# Altium integrated library National Semiconductor OtherParts.IntLib: 205 symbols (part 5 of 7)
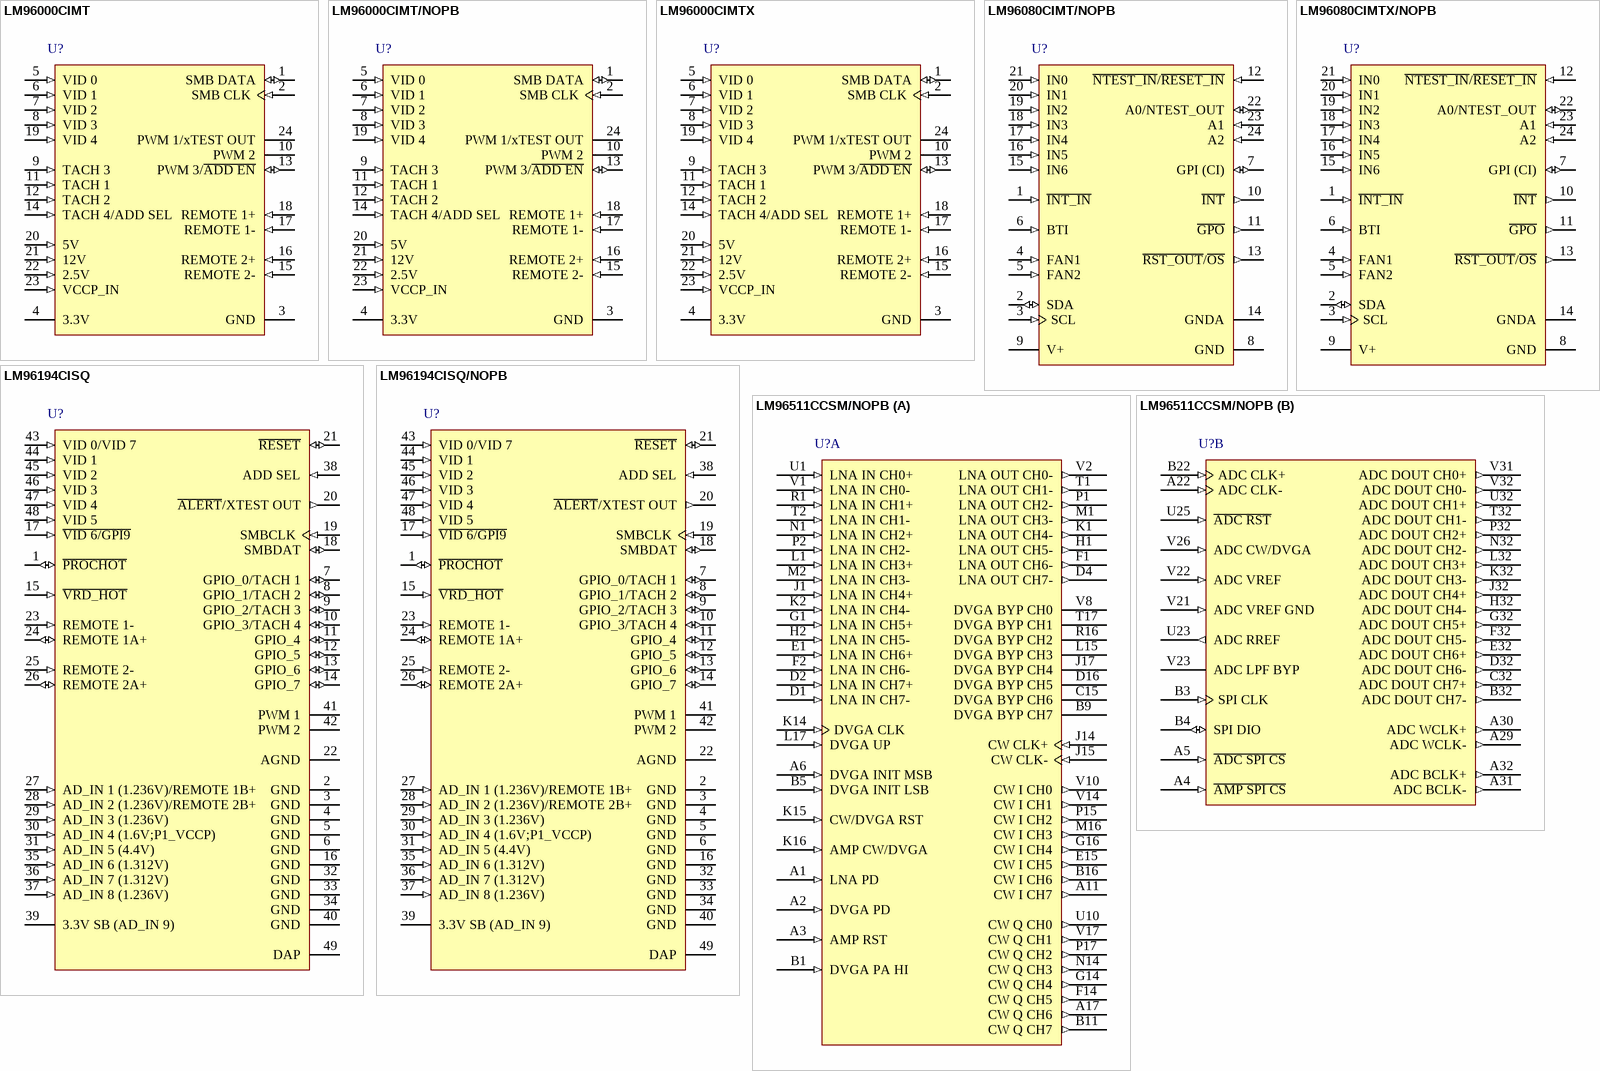
[diagram p16: symbols LM96000CIMT to LM96511CCSM/NOPB]

## LM96000CIMT
designator U?
Hardware Monitor with Integrated Fan Control, 24-pin TSSOP; PartNumber: LM96000CIMT; Manufacturer: National Semiconductor; PackageTopMarking: NSUZXYTTE#*LM96000*CIMT; PowerWise: Y; CompType: OtherParts; DatasheetVersion: Jul-2008; PackageVersion: revE, Mar-2003; PackageReference: MTC24; PackageDescription: Molded TSSOP, Jedec, 7.8 x 4.4 x 0.9mm Body, 24 Lead, 0.65mm Pitch; RoHS: N; PinCount: 24; High-Reliability: Y; Code_JEDEC: MO-153-AD; ComponentLink1Description: Manufacturer URL; ComponentLink1URL: http://www.national.com/; ComponentLink2Description: LM96000 Datasheet; ComponentLink2URL: http://www.national.com/ds/LM/LM96000.pdf; ComponentLink3Description: LM96000 Web Page; ComponentLink3URL: http://www.national.com/pf/LM/LM96000.html; ComponentLink4Description: MTC24 Package Page; ComponentLink4URL: http://www.national.com/packaging/folders/mtc24.html
footprint MTC24_N (TSOP, 24-Leads, Body 7.8x4.4mm, Pitch 0.65mm, IPC Medium Density)
footprint MTC24_L (TSOP, 24-Leads, Body 7.8x4.4mm, Pitch 0.65mm, IPC High Density)
footprint MTC24_M (TSOP, 24-Leads, Body 7.8x4.4mm, Pitch 0.65mm, IPC Low Density)
pins: 1 SMB DATA (io), 2 SMB CLK (in), 3 GND (power), 4 3.3V (power), 5 VID 0 (in), 6 VID 1 (in), 7 VID 2 (in), 8 VID 3 (in), 9 TACH 3 (in), 10 PWM 2 (oe), 11 TACH 1 (in), 12 TACH 2 (in), 13 PWM 3/~{ADD EN} (io), 14 TACH 4/ADD SEL (in), 15 REMOTE 2- (in), 16 REMOTE 2+ (in), 17 REMOTE 1- (in), 18 REMOTE 1+ (in), 19 VID 4 (in), 20 5V (in), 21 12V (in), 22 2.5V (in), 23 VCCP_IN (in), 24 PWM 1/xTEST OUT (oe)

## LM96000CIMT/NOPB
designator U?
Hardware Monitor with Integrated Fan Control, 24-pin TSSOP, Pb-Free; PartNumber: LM96000CIMT/NOPB; Manufacturer: National Semiconductor; PackageTopMarking: NSUZXYTTE#*LM96000*CIMT; PowerWise: Y; CompType: OtherParts; DatasheetVersion: Jul-2008; PackageVersion: revE, Mar-2003; PackageReference: MTC24; PackageDescription: Molded TSSOP, Jedec, 7.8 x 4.4 x 0.9mm Body, 24 Lead, 0.65mm Pitch; RoHS: Y; PinCount: 24; High-Reliability: Y; Code_JEDEC: MO-153-AD; ComponentLink1Description: Manufacturer URL; ComponentLink1URL: http://www.national.com/; ComponentLink2Description: LM96000 Datasheet; ComponentLink2URL: http://www.national.com/ds/LM/LM96000.pdf; ComponentLink3Description: LM96000 Web Page; ComponentLink3URL: http://www.national.com/pf/LM/LM96000.html; ComponentLink4Description: MTC24 Package Page; ComponentLink4URL: http://www.national.com/packaging/folders/mtc24.html
footprint MTC24_N (TSOP, 24-Leads, Body 7.8x4.4mm, Pitch 0.65mm, IPC Medium Density)
footprint MTC24_L (TSOP, 24-Leads, Body 7.8x4.4mm, Pitch 0.65mm, IPC High Density)
footprint MTC24_M (TSOP, 24-Leads, Body 7.8x4.4mm, Pitch 0.65mm, IPC Low Density)
pins: 1 SMB DATA (io), 2 SMB CLK (in), 3 GND (power), 4 3.3V (power), 5 VID 0 (in), 6 VID 1 (in), 7 VID 2 (in), 8 VID 3 (in), 9 TACH 3 (in), 10 PWM 2 (oe), 11 TACH 1 (in), 12 TACH 2 (in), 13 PWM 3/~{ADD EN} (io), 14 TACH 4/ADD SEL (in), 15 REMOTE 2- (in), 16 REMOTE 2+ (in), 17 REMOTE 1- (in), 18 REMOTE 1+ (in), 19 VID 4 (in), 20 5V (in), 21 12V (in), 22 2.5V (in), 23 VCCP_IN (in), 24 PWM 1/xTEST OUT (oe)

## LM96000CIMTX
designator U?
Hardware Monitor with Integrated Fan Control, 24-pin TSSOP; PartNumber: LM96000CIMTX; Manufacturer: National Semiconductor; PackageTopMarking: NSUZXYTTE#*LM96000*CIMT; PowerWise: Y; CompType: OtherParts; DatasheetVersion: Jul-2008; PackageVersion: revE, Mar-2003; PackageReference: MTC24; PackageDescription: Molded TSSOP, Jedec, 7.8 x 4.4 x 0.9mm Body, 24 Lead, 0.65mm Pitch; RoHS: N; PinCount: 24; High-Reliability: Y; Code_JEDEC: MO-153-AD; ComponentLink1Description: Manufacturer URL; ComponentLink1URL: http://www.national.com/; ComponentLink2Description: LM96000 Datasheet; ComponentLink2URL: http://www.national.com/ds/LM/LM96000.pdf; ComponentLink3Description: LM96000 Web Page; ComponentLink3URL: http://www.national.com/pf/LM/LM96000.html; ComponentLink4Description: MTC24 Package Page; ComponentLink4URL: http://www.national.com/packaging/folders/mtc24.html
footprint MTC24_N (TSOP, 24-Leads, Body 7.8x4.4mm, Pitch 0.65mm, IPC Medium Density)
footprint MTC24_L (TSOP, 24-Leads, Body 7.8x4.4mm, Pitch 0.65mm, IPC High Density)
footprint MTC24_M (TSOP, 24-Leads, Body 7.8x4.4mm, Pitch 0.65mm, IPC Low Density)
pins: 1 SMB DATA (io), 2 SMB CLK (in), 3 GND (power), 4 3.3V (power), 5 VID 0 (in), 6 VID 1 (in), 7 VID 2 (in), 8 VID 3 (in), 9 TACH 3 (in), 10 PWM 2 (oe), 11 TACH 1 (in), 12 TACH 2 (in), 13 PWM 3/~{ADD EN} (io), 14 TACH 4/ADD SEL (in), 15 REMOTE 2- (in), 16 REMOTE 2+ (in), 17 REMOTE 1- (in), 18 REMOTE 1+ (in), 19 VID 4 (in), 20 5V (in), 21 12V (in), 22 2.5V (in), 23 VCCP_IN (in), 24 PWM 1/xTEST OUT (oe)

## LM96080CIMT/NOPB
designator U?
System Hardware Monitor with 2-Wire Serial Interface, 24-pin TSSOP, Pb-Free; PartNumber: LM96080CIMT/NOPB; Manufacturer: National Semiconductor; PackageTopMarking: NSUZXYTTE#*LM96080*CIMT; PowerWise: Y; CompType: OtherParts; DatasheetVersion: Nov-2009; PackageVersion: revE, Mar-2003; PackageReference: MTC24; PackageDescription: Molded TSSOP, Jedec, 7.8 x 4.4 x 0.9mm Body, 24 Lead, 0.65mm Pitch; RoHS: Y; PinCount: 24; High-Reliability: Y; Code_JEDEC: MO-153-AD; ComponentLink1Description: Manufacturer URL; ComponentLink1URL: http://www.national.com/; ComponentLink2Description: LM96080 Datasheet; ComponentLink2URL: http://www.national.com/ds/LM/LM96080.pdf; ComponentLink3Description: LM96080 Web Page; ComponentLink3URL: http://www.national.com/pf/LM/LM96080.html; ComponentLink4Description: MTC24 Package Page; ComponentLink4URL: http://www.national.com/packaging/folders/mtc24.html
footprint MTC24_N (TSOP, 24-Leads, Body 7.8x4.4mm, Pitch 0.65mm, IPC Medium Density)
footprint MTC24_L (TSOP, 24-Leads, Body 7.8x4.4mm, Pitch 0.65mm, IPC High Density)
footprint MTC24_M (TSOP, 24-Leads, Body 7.8x4.4mm, Pitch 0.65mm, IPC Low Density)
pins: 1 ~{INT_IN} (in), 2 SDA (io), 3 SCL (in), 4 FAN1 (in), 5 FAN2 (in), 6 BTI (in), 7 GPI (CI) (io), 8 GND (power), 9 V+ (power), 10 ~{INT} (out), 11 ~{GPO} (out), 12 ~{NTEST_IN}/~{RESET_IN} (in), 13 ~{RST_OUT}/~{OS} (out), 14 GNDA (power), 15 IN6 (in), 16 IN5 (in), 17 IN4 (in), 18 IN3 (in), 19 IN2 (in), 20 IN1 (in), 21 IN0 (in), 22 A0/NTEST_OUT (io), 23 A1 (in), 24 A2 (in)

## LM96080CIMTX/NOPB
designator U?
System Hardware Monitor with 2-Wire Serial Interface, 24-pin TSSOP, Pb-Free; PartNumber: LM96080CIMTX/NOPB; Manufacturer: National Semiconductor; PackageTopMarking: NSUZXYTTE#*LM96080*CIMT; PowerWise: Y; CompType: OtherParts; DatasheetVersion: Nov-2009; PackageVersion: revE, Mar-2003; PackageReference: MTC24; PackageDescription: Molded TSSOP, Jedec, 7.8 x 4.4 x 0.9mm Body, 24 Lead, 0.65mm Pitch; RoHS: Y; PinCount: 24; High-Reliability: Y; Code_JEDEC: MO-153-AD; ComponentLink1Description: Manufacturer URL; ComponentLink1URL: http://www.national.com/; ComponentLink2Description: LM96080 Datasheet; ComponentLink2URL: http://www.national.com/ds/LM/LM96080.pdf; ComponentLink3Description: LM96080 Web Page; ComponentLink3URL: http://www.national.com/pf/LM/LM96080.html; ComponentLink4Description: MTC24 Package Page; ComponentLink4URL: http://www.national.com/packaging/folders/mtc24.html
footprint MTC24_N (TSOP, 24-Leads, Body 7.8x4.4mm, Pitch 0.65mm, IPC Medium Density)
footprint MTC24_L (TSOP, 24-Leads, Body 7.8x4.4mm, Pitch 0.65mm, IPC High Density)
footprint MTC24_M (TSOP, 24-Leads, Body 7.8x4.4mm, Pitch 0.65mm, IPC Low Density)
pins: 1 ~{INT_IN} (in), 2 SDA (io), 3 SCL (in), 4 FAN1 (in), 5 FAN2 (in), 6 BTI (in), 7 GPI (CI) (io), 8 GND (power), 9 V+ (power), 10 ~{INT} (out), 11 ~{GPO} (out), 12 ~{NTEST_IN}/~{RESET_IN} (in), 13 ~{RST_OUT}/~{OS} (out), 14 GNDA (power), 15 IN6 (in), 16 IN5 (in), 17 IN4 (in), 18 IN3 (in), 19 IN2 (in), 20 IN1 (in), 21 IN0 (in), 22 A0/NTEST_OUT (io), 23 A1 (in), 24 A2 (in)

## LM96194CISQ
designator U?
TruTherm Hardware Monitor with PI Fan Control for Workstation Management, 48-pin LLP; PartNumber: LM96194CISQ; Manufacturer: National Semiconductor; PackageTopMarking: THHD*XTT; PowerWise: Y; CompType: OtherParts; DatasheetVersion: Mar-2004; PackageVersion: revB, May-2009; PackageReference: SQA48A; PackageDescription: LLP, Plastic, Quad, 7 x 7 x 0.8mm Body, 48 Lead, 0.5mm Pitch, No Pullback; RoHS: Y; PinCount: 48; High-Reliability: Y; Code_JEDEC: MO-220-WKKD-2; ComponentLink1Description: Manufacturer URL; ComponentLink1URL: http://www.national.com/; ComponentLink2Description: LM96194 Datasheet; ComponentLink2URL: http://www.national.com/ds/LM/LM96194.pdf; ComponentLink3Description: LM96194 Web Page; ComponentLink3URL: http://www.national.com/pf/LM/LM96194.html; ComponentLink4Description: SQA48A Package Page; ComponentLink4URL: http://www.national.com/packaging/folders/sqa48a.html
footprint SQA48A (QFN, 48-Leads, Body 7x7mm, Pitch 0.5mm, Thermal Pad 5.2x5.2mm, NSC Recommended)
pins: 1 ~{PROCHOT} (io), 2 GND (power), 3 GND (power), 4 GND (power), 5 GND (power), 6 GND (power), 7 GPIO_0/TACH 1 (io), 8 GPIO_1/TACH 2 (io), 9 GPIO_2/TACH 3 (io), 10 GPIO_3/TACH 4 (io), 11 GPIO_4 (io), 12 GPIO_5 (io), 13 GPIO_6 (io), 14 GPIO_7 (io), 15 ~{VRD_HOT} (in), 16 GND (power), 17 ~{VID 6/GPI9} (in), 18 SMBDAT (io), 19 SMBCLK (in), 20 ~{ALERT}/XTEST OUT (out), 21 ~{RESET} (io), 22 AGND (power), 23 REMOTE 1- (in), 24 REMOTE 1A+ (io), 25 REMOTE 2- (in), 26 REMOTE 2A+ (io), 27 AD_IN 1 (1.236V)/REMOTE 1B+ (in), 28 AD_IN 2 (1.236V)/REMOTE 2B+ (in), 29 AD_IN 3 (1.236V) (in), 30 AD_IN 4 (1.6V;P1_VCCP) (in), 31 AD_IN 5 (4.4V) (in), 32 GND (power), 33 GND (power), 34 GND (power), 35 AD_IN 6 (1.312V) (in), 36 AD_IN 7 (1.312V) (in), 37 AD_IN 8 (1.236V) (in), 38 ADD SEL (in), 39 3.3V SB (AD_IN 9) (power), 40 GND (power), 41 PWM 1 (oe), 42 PWM 2 (oe), 43 VID 0/VID 7 (in), 44 VID 1 (in), 45 VID 2 (in), 46 VID 3 (in), 47 VID 4 (in), 48 VID 5 (in), 49 DAP (power)

## LM96194CISQ/NOPB
designator U?
TruTherm Hardware Monitor with PI Fan Control for Workstation Management, 48-pin LLP, Pb-Free; PartNumber: LM96194CISQ/NOPB; Manufacturer: National Semiconductor; PackageTopMarking: NS*UZXYTTE#*LM96194; PowerWise: Y; CompType: OtherParts; DatasheetVersion: Mar-2004; PackageVersion: revB, May-2009; PackageReference: SQA48A; PackageDescription: LLP, Plastic, Quad, 7 x 7 x 0.8mm Body, 48 Lead, 0.5mm Pitch, No Pullback; RoHS: Y; PinCount: 48; High-Reliability: Y; Code_JEDEC: MO-220-WKKD-2; ComponentLink1Description: Manufacturer URL; ComponentLink1URL: http://www.national.com/; ComponentLink2Description: LM96194 Datasheet; ComponentLink2URL: http://www.national.com/ds/LM/LM96194.pdf; ComponentLink3Description: LM96194 Web Page; ComponentLink3URL: http://www.national.com/pf/LM/LM96194.html; ComponentLink4Description: SQA48A Package Page; ComponentLink4URL: http://www.national.com/packaging/folders/sqa48a.html
footprint SQA48A (QFN, 48-Leads, Body 7x7mm, Pitch 0.5mm, Thermal Pad 5.2x5.2mm, NSC Recommended)
pins: 1 ~{PROCHOT} (io), 2 GND (power), 3 GND (power), 4 GND (power), 5 GND (power), 6 GND (power), 7 GPIO_0/TACH 1 (io), 8 GPIO_1/TACH 2 (io), 9 GPIO_2/TACH 3 (io), 10 GPIO_3/TACH 4 (io), 11 GPIO_4 (io), 12 GPIO_5 (io), 13 GPIO_6 (io), 14 GPIO_7 (io), 15 ~{VRD_HOT} (in), 16 GND (power), 17 ~{VID 6/GPI9} (in), 18 SMBDAT (io), 19 SMBCLK (in), 20 ~{ALERT}/XTEST OUT (out), 21 ~{RESET} (io), 22 AGND (power), 23 REMOTE 1- (in), 24 REMOTE 1A+ (io), 25 REMOTE 2- (in), 26 REMOTE 2A+ (io), 27 AD_IN 1 (1.236V)/REMOTE 1B+ (in), 28 AD_IN 2 (1.236V)/REMOTE 2B+ (in), 29 AD_IN 3 (1.236V) (in), 30 AD_IN 4 (1.6V;P1_VCCP) (in), 31 AD_IN 5 (4.4V) (in), 32 GND (power), 33 GND (power), 34 GND (power), 35 AD_IN 6 (1.312V) (in), 36 AD_IN 7 (1.312V) (in), 37 AD_IN 8 (1.236V) (in), 38 ADD SEL (in), 39 3.3V SB (AD_IN 9) (power), 40 GND (power), 41 PWM 1 (oe), 42 PWM 2 (oe), 43 VID 0/VID 7 (in), 44 VID 1 (in), 45 VID 2 (in), 46 VID 3 (in), 47 VID 4 (in), 48 VID 5 (in), 49 DAP (power)

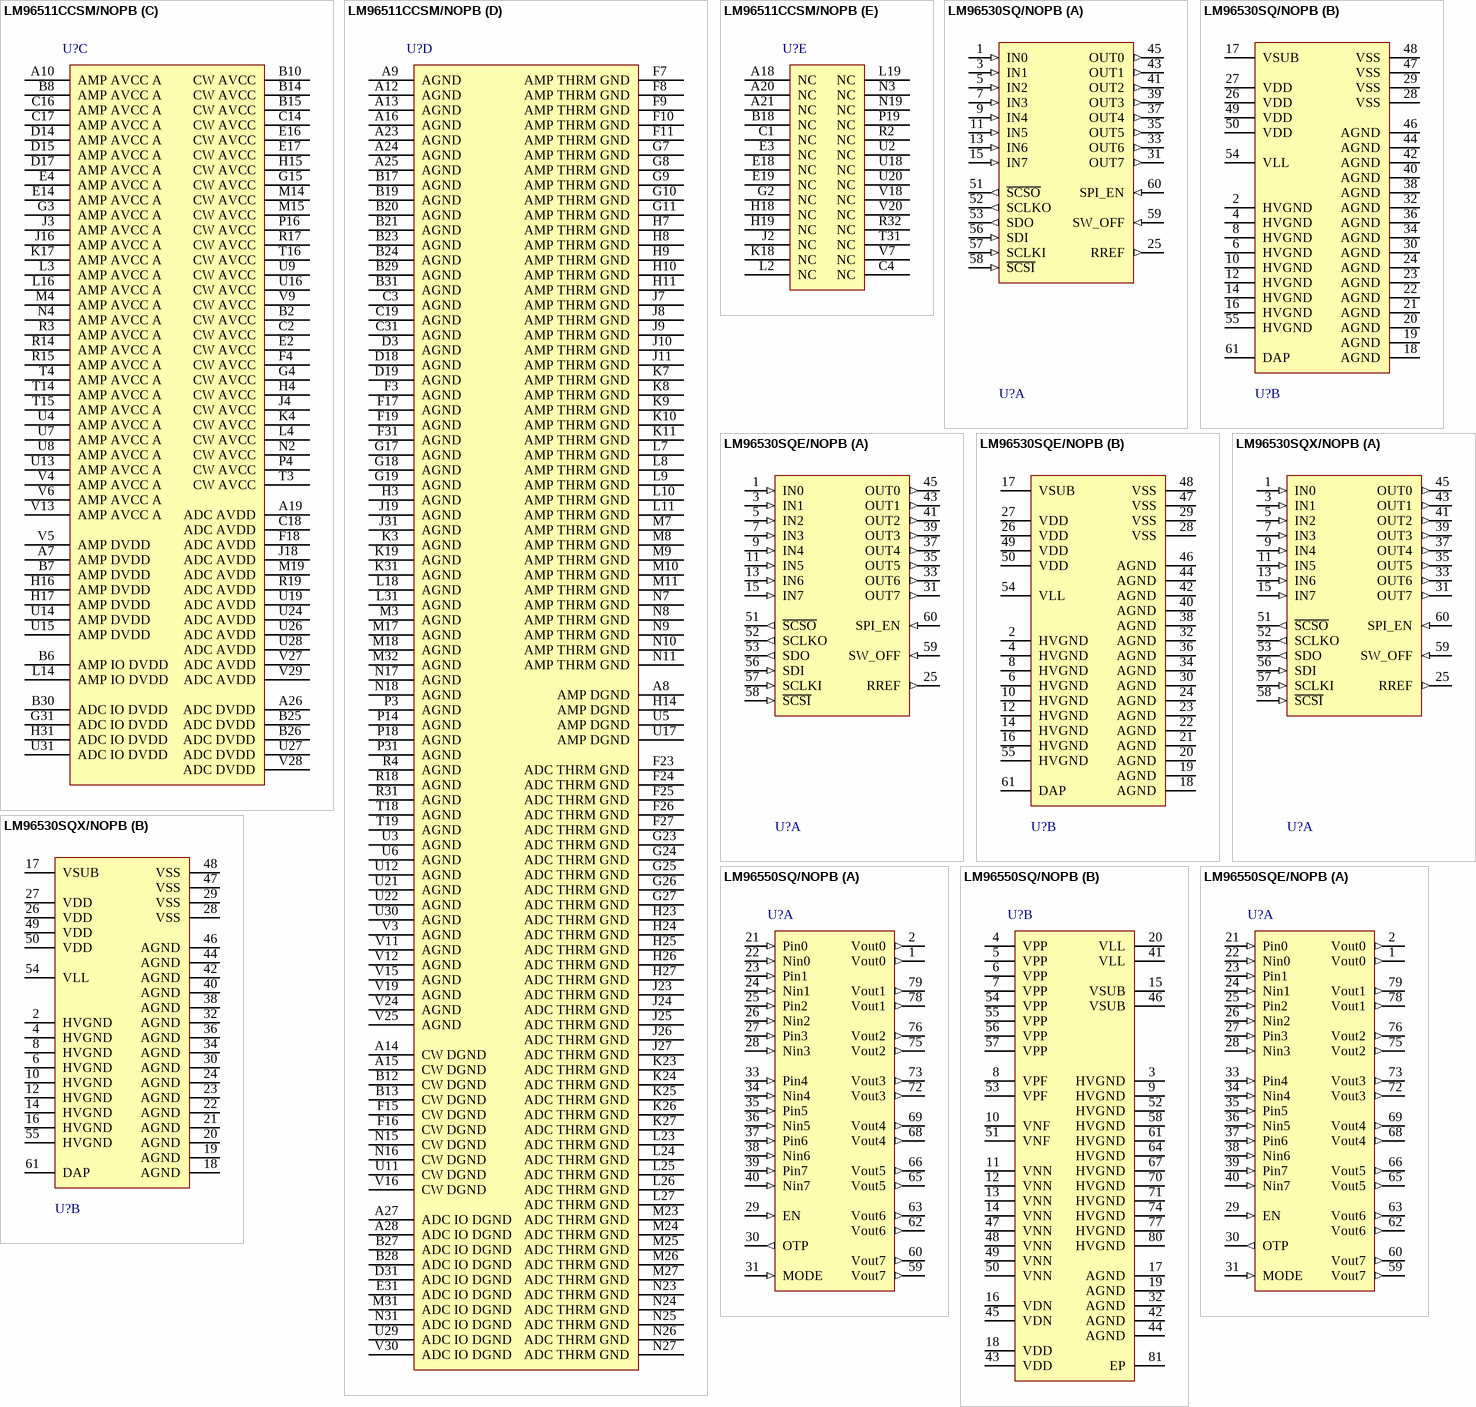
[diagram p8: symbols LM96511CCSM/NOPB to LM96550SQE/NOPB]

## LM96511CCSM/NOPB
designator U?
Ultrasound Receive Analog Front End (AFE), 376-pin TFBGA; PartNumber: LM96511CCSM/NOPB; Manufacturer: National Semiconductor; PackageTopMarking: UZXYTTE#*LM96511; PowerWise: N; CompType: OtherParts; High-Reliability: Y; DatasheetVersion: Sep-2010; PackageVersion: revA, Aug-2008; PackageReference: SLM376A; PackageDescription: TFBGA, Plastic, Laminate, 17 x 10 x 1.2mm, 376 Ball, 0.5mm Pitch; RoHS: Y; PinCount: 376; ComponentLink1Description: Manufacturer URL; ComponentLink1URL: http://www.national.com/; ComponentLink2Description: LM96511 Datasheet; ComponentLink2URL: http://www.national.com/ds/LM/LM96511.pdf; ComponentLink3Description: LM96511 Web Page; ComponentLink3URL: http://www.national.com/pf/LM/LM96511.html; ComponentLink4Description: SLM376A Package Page; ComponentLink4URL: http://www.national.com/packaging/folders/slm376a.html
footprint SLM376A (BGA, 376-Leads, Body 10x17mm, Pitch 0.5mm)
part A pins: A1 LNA PD (in), A2 DVGA PD (in), A3 AMP RST (in), A6 DVGA INIT MSB (in), A11 CW I CH7 (out), A17 CW Q CH6 (out), B1 DVGA PA HI (in), B5 DVGA INIT LSB (in), B9 DVGA BYP CH7, B11 CW Q CH7 (out), B16 CW I CH6 (out), C15 DVGA BYP CH6, D1 LNA IN CH7- (in), D2 LNA IN CH7+ (in), D4 LNA OUT CH7- (out), D16 DVGA BYP CH5, E1 LNA IN CH6+ (in), E15 CW I CH5 (out), F1 LNA OUT CH6- (out), F2 LNA IN CH6- (in), F14 CW Q CH5 (out), G1 LNA IN CH5+ (in), G14 CW Q CH4 (out), G16 CW I CH4 (out), H1 LNA OUT CH5- (out), H2 LNA IN CH5- (in), J1 LNA IN CH4+ (in), J14 CW CLK+ (in), J15 CW CLK- (in), J17 DVGA BYP CH4, K1 LNA OUT CH4- (out), K2 LNA IN CH4- (in), K14 DVGA CLK (in), K15 CW/DVGA RST (in), K16 AMP CW/DVGA  (in), L1 LNA IN CH3+ (in), L15 DVGA BYP CH3, L17 DVGA UP (in), M1 LNA OUT CH3- (out), M2 LNA IN CH3- (in), M16 CW I CH3 (out), N1 LNA IN CH2+ (in), N14 CW Q CH3 (out), P1 LNA OUT CH2- (out), P2 LNA IN CH2- (in), P15 CW I CH2 (out), P17 CW Q CH2 (out), R1 LNA IN CH1+ (in), R16 DVGA BYP CH2, T1 LNA OUT CH1- (out), T2 LNA IN CH1- (in), T17 DVGA BYP CH1, U1 LNA IN CH0+ (in), U10 CW Q CH0 (out), V1 LNA IN CH0- (in), V2 LNA OUT CH0- (out), V8 DVGA BYP CH0, V10 CW I CH0 (out), V14 CW I CH1 (out), V17 CW Q CH1 (out)
part B pins: A4 ~{AMP SPI CS} (in), A5 ~{ADC SPI CS} (in), A22 ADC CLK- (in), A29 ADC WCLK- (out), A30 ADC WCLK+ (out), A31 ADC BCLK- (out), A32 ADC BCLK+ (out), B3 SPI CLK (in), B4 SPI DIO (io), B22 ADC CLK+ (in), B32 ADC DOUT CH7- (out), C32 ADC DOUT CH7+ (out), D32 ADC DOUT CH6- (out), E32 ADC DOUT CH6+ (out), F32 ADC DOUT CH5- (out), G32 ADC DOUT CH5+ (out), H32 ADC DOUT CH4- (out), J32 ADC DOUT CH4+ (out), K32 ADC DOUT CH3- (out), L32 ADC DOUT CH3+ (out), N32 ADC DOUT CH2- (out), P32 ADC DOUT CH2+ (out), T32 ADC DOUT CH1- (out), U23 ADC RREF (out), U25 ~{ADC RST} (in), U32 ADC DOUT CH1+ (out), V21 ADC VREF GND (in), V22 ADC VREF (in), V23 ADC LPF BYP, V26 ADC CW/DVGA (in), V31 ADC DOUT CH0+ (out), V32 ADC DOUT CH0- (out)
part C pins: A7 AMP DVDD (power), A10 AMP AVCC A (power), A19 ADC AVDD (power), A26 ADC DVDD (power), B2 CW AVCC (power), B6 AMP IO DVDD (power), B7 AMP DVDD (power), B8 AMP AVCC A (power), B10 CW AVCC (power), B14 CW AVCC (power), B15 CW AVCC (power), B25 ADC DVDD (power), B26 ADC DVDD (power), B30 ADC IO DVDD (power), C2 CW AVCC (power), C14 CW AVCC (power), C16 AMP AVCC A (power), C17 AMP AVCC A (power), C18 ADC AVDD (power), D14 AMP AVCC A (power), D15 AMP AVCC A (power), D17 AMP AVCC A (power), E2 CW AVCC (power), E4 AMP AVCC A (power), E14 AMP AVCC A (power), E16 CW AVCC (power), E17 CW AVCC (power), F4 CW AVCC (power), F18 ADC AVDD (power), G3 AMP AVCC A (power), G4 CW AVCC (power), G15 CW AVCC (power), G31 ADC IO DVDD (power), H4 CW AVCC (power), H15 CW AVCC (power), H16 AMP DVDD (power), H17 AMP DVDD (power), H31 ADC IO DVDD (power), J3 AMP AVCC A (power), J4 CW AVCC (power), J16 AMP AVCC A (power), J18 ADC AVDD (power), K4 CW AVCC (power), K17 AMP AVCC A (power), L3 AMP AVCC A (power), L4 CW AVCC (power), L14 AMP IO DVDD (power), L16 AMP AVCC A (power), M4 AMP AVCC A (power), M14 CW AVCC (power), M15 CW AVCC (power), M19 ADC AVDD (power), N2 CW AVCC (power), N4 AMP AVCC A (power), P4 CW AVCC (power), P16 CW AVCC (power), R3 AMP AVCC A (power), R14 AMP AVCC A (power), R15 AMP AVCC A (power), R17 CW AVCC (power), R19 ADC AVDD (power), T3 CW AVCC (power), T4 AMP AVCC A (power), T14 AMP AVCC A (power), T15 AMP AVCC A (power), T16 CW AVCC (power), U4 AMP AVCC A (power), U7 AMP AVCC A (power), U8 AMP AVCC A (power), U9 CW AVCC (power), U13 AMP AVCC A (power), U14 AMP DVDD (power), U15 AMP DVDD (power), U16 CW AVCC (power), U19 ADC AVDD (power), U24 ADC AVDD (power), U26 ADC AVDD (power), U27 ADC DVDD (power), U28 ADC AVDD (power), U31 ADC IO DVDD (power), V4 AMP AVCC A (power), V5 AMP DVDD (power), V6 AMP AVCC A (power), V9 CW AVCC (power), V13 AMP AVCC A (power), V27 ADC AVDD (power), V28 ADC DVDD (power), V29 ADC AVDD (power)
part D pins: A8 AMP DGND (power), A9 AGND (power), A12 AGND (power), A13 AGND (power), A14 CW DGND (power), A15 CW DGND (power), A16 AGND (power), A23 AGND (power), A24 AGND (power), A25 AGND (power), A27 ADC IO DGND (power), A28 ADC IO DGND (power), B12 CW DGND (power), B13 CW DGND (power), B17 AGND (power), B19 AGND (power), B20 AGND (power), B21 AGND (power), B23 AGND (power), B24 AGND (power), B27 ADC IO DGND (power), B28 ADC IO DGND (power), B29 AGND (power), B31 AGND (power), C3 AGND (power), C19 AGND (power), C31 AGND (power), D3 AGND (power), D18 AGND (power), D19 AGND (power), D31 ADC IO DGND (power), E31 ADC IO DGND (power), F3 AGND (power), F7 AMP THRM GND (power), F8 AMP THRM GND (power), F9 AMP THRM GND (power), F10 AMP THRM GND (power), F11 AMP THRM GND (power), F15 CW DGND (power), F16 CW DGND (power), F17 AGND (power), F19 AGND (power), F23 ADC THRM GND (power), F24 ADC THRM GND (power), F25 ADC THRM GND (power), F26 ADC THRM GND (power), F27 ADC THRM GND (power), F31 AGND (power), G7 AMP THRM GND (power), G8 AMP THRM GND (power), G9 AMP THRM GND (power), G10 AMP THRM GND (power), G11 AMP THRM GND (power), G17 AGND (power), G18 AGND (power), G19 AGND (power), G23 ADC THRM GND (power), G24 ADC THRM GND (power), G25 ADC THRM GND (power), G26 ADC THRM GND (power), G27 ADC THRM GND (power), H3 AGND (power), H7 AMP THRM GND (power), H8 AMP THRM GND (power), H9 AMP THRM GND (power), H10 AMP THRM GND (power), H11 AMP THRM GND (power), H14 AMP DGND (power), H23 ADC THRM GND (power), H24 ADC THRM GND (power), H25 ADC THRM GND (power), H26 ADC THRM GND (power), H27 ADC THRM GND (power), J7 AMP THRM GND (power), J8 AMP THRM GND (power), J9 AMP THRM GND (power), J10 AMP THRM GND (power), J11 AMP THRM GND (power), J19 AGND (power), J23 ADC THRM GND (power), J24 ADC THRM GND (power), J25 ADC THRM GND (power), J26 ADC THRM GND (power), J27 ADC THRM GND (power), J31 AGND (power), K3 AGND (power), K7 AMP THRM GND (power), K8 AMP THRM GND (power), K9 AMP THRM GND (power), K10 AMP THRM GND (power), K11 AMP THRM GND (power), K19 AGND (power), K23 ADC THRM GND (power), K24 ADC THRM GND (power), K25 ADC THRM GND (power), K26 ADC THRM GND (power), K27 ADC THRM GND (power), K31 AGND (power), L7 AMP THRM GND (power), L8 AMP THRM GND (power), L9 AMP THRM GND (power), L10 AMP THRM GND (power), L11 AMP THRM GND (power), L18 AGND (power), L23 ADC THRM GND (power), L24 ADC THRM GND (power), L25 ADC THRM GND (power), L26 ADC THRM GND (power), L27 ADC THRM GND (power), L31 AGND (power), M3 AGND (power), M7 AMP THRM GND (power), M8 AMP THRM GND (power), M9 AMP THRM GND (power), M10 AMP THRM GND (power), M11 AMP THRM GND (power), M17 AGND (power), M18 AGND (power), M23 ADC THRM GND (power), M24 ADC THRM GND (power), M25 ADC THRM GND (power), M26 ADC THRM GND (power), M27 ADC THRM GND (power), M31 ADC IO DGND (power), M32 AGND (power), N7 AMP THRM GND (power), N8 AMP THRM GND (power), N9 AMP THRM GND (power), N10 AMP THRM GND (power), N11 AMP THRM GND (power), N15 CW DGND (power), N16 CW DGND (power), N17 AGND (power), N18 AGND (power), N23 ADC THRM GND (power), N24 ADC THRM GND (power), N25 ADC THRM GND (power), N26 ADC THRM GND (power), N27 ADC THRM GND (power), N31 ADC IO DGND (power), P3 AGND (power), P14 AGND (power), P18 AGND (power), P31 AGND (power), R4 AGND (power), R18 AGND (power), R31 AGND (power), T18 AGND (power), T19 AGND (power), U3 AGND (power), U5 AMP DGND (power), U6 AGND (power), U11 CW DGND (power), U12 AGND (power), U17 AMP DGND (power), U21 AGND (power), U22 AGND (power), U29 ADC IO DGND (power), U30 AGND (power), V3 AGND (power), V11 AGND (power), V12 AGND (power), V15 AGND (power), V16 CW DGND (power), V19 AGND (power), V24 AGND (power), V25 AGND (power), V30 ADC IO DGND (power)
part E pins: A18 NC, A20 NC, A21 NC, B18 NC, C1 NC, C4 NC, E3 NC, E18 NC, E19 NC, G2 NC, H18 NC, H19 NC, J2 NC, K18 NC, L2 NC, L19 NC, N3 NC, N19 NC, P19 NC, R2 NC, R32 NC, T31 NC, U2 NC, U18 NC, U20 NC, V7 NC, V18 NC, V20 NC

## LM96530SQ/NOPB
designator U?
Ultrasound Transmit/Receive Switch, 60-pin LLP, 1000 Reel; PartNumber: LM96530SQ/NOPB; Manufacturer: National Semiconductor; PackageTopMarking: NS*UZXYTTE#*LM96530SQ; PowerWise: N; CompType: OtherParts; High-Reliability: Y; DatasheetVersion: Jan-2011; PackageVersion: revA, Jun-2005; PackageReference: SQA60A; PackageDescription: LLP, Quad, 9 x 9 x 0.8mm, 60 Lead, 0.5mm Pitch, No Pullback; RoHS: Y; PinCount: 60; ComponentLink1Description: Manufacturer URL; ComponentLink1URL: http://www.national.com/; ComponentLink2Description: LM96530 Datasheet; ComponentLink2URL: http://www.national.com/ds/LM/LM96530.pdf; ComponentLink3Description: LM96530 Web Page; ComponentLink3URL: http://www.national.com/pf/LM/LM96530.html; ComponentLink4Description: SQA60A Package Page; ComponentLink4URL: http://www.national.com/packaging/folders/sqa60a.html
footprint SQA60A (QFN, 60-Leads, Body 9x9mm, Pitch 0.5mm, Thermal Pad 7.3x7.3mm, NSC Recommended)
part A pins: 1 IN0 (in), 3 IN1 (in), 5 IN2 (in), 7 IN3 (in), 9 IN4 (in), 11 IN5 (in), 13 IN6 (in), 15 IN7 (in), 25 RREF (out), 31 OUT7 (out), 33 OUT6 (out), 35 OUT5 (out), 37 OUT4 (out), 39 OUT3 (out), 41 OUT2 (out), 43 OUT1 (out), 45 OUT0 (out), 51 ~{SCSO} (out), 52 SCLKO (out), 53 SDO (out), 56 SDI (in), 57 SCLKI (in), 58 ~{SCSI} (in), 59 SW_OFF (in), 60 SPI_EN (in)
part B pins: 2 HVGND (power), 4 HVGND (power), 6 HVGND (power), 8 HVGND (power), 10 HVGND (power), 12 HVGND (power), 14 HVGND (power), 16 HVGND (power), 17 VSUB (power), 18 AGND (power), 19 AGND (power), 20 AGND (power), 21 AGND (power), 22 AGND (power), 23 AGND (power), 24 AGND (power), 26 VDD (power), 27 VDD (power), 28 VSS (power), 29 VSS (power), 30 AGND (power), 32 AGND (power), 34 AGND (power), 36 AGND (power), 38 AGND (power), 40 AGND (power), 42 AGND (power), 44 AGND (power), 46 AGND (power), 47 VSS (power), 48 VSS (power), 49 VDD (power), 50 VDD (power), 54 VLL (power), 55 HVGND (power), 61 DAP (power)

## LM96530SQE/NOPB
designator U?
Ultrasound Transmit/Receive Switch, 60-pin LLP, 250 Reel; PartNumber: LM96530SQE/NOPB; Manufacturer: National Semiconductor; PackageTopMarking: NS*UZXYTTE#*LM96530SQ; PowerWise: N; CompType: OtherParts; High-Reliability: Y; DatasheetVersion: Jan-2011; PackageVersion: revA, Jun-2005; PackageReference: SQA60A; PackageDescription: LLP, Quad, 9 x 9 x 0.8mm, 60 Lead, 0.5mm Pitch, No Pullback; RoHS: Y; PinCount: 60; ComponentLink1Description: Manufacturer URL; ComponentLink1URL: http://www.national.com/; ComponentLink2Description: LM96530 Datasheet; ComponentLink2URL: http://www.national.com/ds/LM/LM96530.pdf; ComponentLink3Description: LM96530 Web Page; ComponentLink3URL: http://www.national.com/pf/LM/LM96530.html; ComponentLink4Description: SQA60A Package Page; ComponentLink4URL: http://www.national.com/packaging/folders/sqa60a.html
footprint SQA60A (QFN, 60-Leads, Body 9x9mm, Pitch 0.5mm, Thermal Pad 7.3x7.3mm, NSC Recommended)
part A pins: 1 IN0 (in), 3 IN1 (in), 5 IN2 (in), 7 IN3 (in), 9 IN4 (in), 11 IN5 (in), 13 IN6 (in), 15 IN7 (in), 25 RREF (out), 31 OUT7 (out), 33 OUT6 (out), 35 OUT5 (out), 37 OUT4 (out), 39 OUT3 (out), 41 OUT2 (out), 43 OUT1 (out), 45 OUT0 (out), 51 ~{SCSO} (out), 52 SCLKO (out), 53 SDO (out), 56 SDI (in), 57 SCLKI (in), 58 ~{SCSI} (in), 59 SW_OFF (in), 60 SPI_EN (in)
part B pins: 2 HVGND (power), 4 HVGND (power), 6 HVGND (power), 8 HVGND (power), 10 HVGND (power), 12 HVGND (power), 14 HVGND (power), 16 HVGND (power), 17 VSUB (power), 18 AGND (power), 19 AGND (power), 20 AGND (power), 21 AGND (power), 22 AGND (power), 23 AGND (power), 24 AGND (power), 26 VDD (power), 27 VDD (power), 28 VSS (power), 29 VSS (power), 30 AGND (power), 32 AGND (power), 34 AGND (power), 36 AGND (power), 38 AGND (power), 40 AGND (power), 42 AGND (power), 44 AGND (power), 46 AGND (power), 47 VSS (power), 48 VSS (power), 49 VDD (power), 50 VDD (power), 54 VLL (power), 55 HVGND (power), 61 DAP (power)

## LM96530SQX/NOPB
designator U?
Ultrasound Transmit/Receive Switch, 60-pin LLP, 2000 Reel; PartNumber: LM96530SQX/NOPB; Manufacturer: National Semiconductor; PackageTopMarking: NS*UZXYTTE#*LM96530SQ; PowerWise: N; CompType: OtherParts; High-Reliability: Y; DatasheetVersion: Jan-2011; PackageVersion: revA, Jun-2005; PackageReference: SQA60A; PackageDescription: LLP, Quad, 9 x 9 x 0.8mm, 60 Lead, 0.5mm Pitch, No Pullback; RoHS: Y; PinCount: 60; ComponentLink1Description: Manufacturer URL; ComponentLink1URL: http://www.national.com/; ComponentLink2Description: LM96530 Datasheet; ComponentLink2URL: http://www.national.com/ds/LM/LM96530.pdf; ComponentLink3Description: LM96530 Web Page; ComponentLink3URL: http://www.national.com/pf/LM/LM96530.html; ComponentLink4Description: SQA60A Package Page; ComponentLink4URL: http://www.national.com/packaging/folders/sqa60a.html
footprint SQA60A (QFN, 60-Leads, Body 9x9mm, Pitch 0.5mm, Thermal Pad 7.3x7.3mm, NSC Recommended)
part A pins: 1 IN0 (in), 3 IN1 (in), 5 IN2 (in), 7 IN3 (in), 9 IN4 (in), 11 IN5 (in), 13 IN6 (in), 15 IN7 (in), 25 RREF (out), 31 OUT7 (out), 33 OUT6 (out), 35 OUT5 (out), 37 OUT4 (out), 39 OUT3 (out), 41 OUT2 (out), 43 OUT1 (out), 45 OUT0 (out), 51 ~{SCSO} (out), 52 SCLKO (out), 53 SDO (out), 56 SDI (in), 57 SCLKI (in), 58 ~{SCSI} (in), 59 SW_OFF (in), 60 SPI_EN (in)
part B pins: 2 HVGND (power), 4 HVGND (power), 6 HVGND (power), 8 HVGND (power), 10 HVGND (power), 12 HVGND (power), 14 HVGND (power), 16 HVGND (power), 17 VSUB (power), 18 AGND (power), 19 AGND (power), 20 AGND (power), 21 AGND (power), 22 AGND (power), 23 AGND (power), 24 AGND (power), 26 VDD (power), 27 VDD (power), 28 VSS (power), 29 VSS (power), 30 AGND (power), 32 AGND (power), 34 AGND (power), 36 AGND (power), 38 AGND (power), 40 AGND (power), 42 AGND (power), 44 AGND (power), 46 AGND (power), 47 VSS (power), 48 VSS (power), 49 VDD (power), 50 VDD (power), 54 VLL (power), 55 HVGND (power), 61 DAP (power)

## LM96550SQ/NOPB
designator U?
Ultrasound Transmit Pulser, 80-pin LLP, 1000 Reel; PartNumber: LM96550SQ/NOPB; Manufacturer: National Semiconductor; PackageTopMarking: NS*UZXYTTE#*LM96550SQ; PowerWise: N; CompType: OtherParts; High-Reliability: Y; DatasheetVersion: Oct-2011; PackageVersion: revA, Apr-2009; PackageReference: SQA80A; PackageDescription: LLP, Quad, 12 x 12 x 0.8mm, 80 Lead, 0.5mm Pitch, No Pullback; RoHS: Y; PinCount: 80; Code_JEDEC: MO-220-WRRD; ComponentLink1Description: Manufacturer URL; ComponentLink1URL: http://www.national.com/; ComponentLink2Description: LM96550 Datasheet; ComponentLink2URL: http://www.national.com/ds/LM/LM96550.pdf; ComponentLink3Description: LM96550 Web Page; ComponentLink3URL: http://www.national.com/pf/LM/LM96550.html; ComponentLink4Description: SQA80A Package Page; ComponentLink4URL: http://www.national.com/packaging/folders/sqa80a.html
footprint SQA80A (QFN, 80-Leads, Body 12x12mm, Pitch 0.5mm, Thermal Pad 10.65x10.65mm, NSC Recommended)
part A pins: 1 Vout0 (out), 2 Vout0 (out), 21 Pin0 (in), 22 Nin0 (in), 23 Pin1 (in), 24 Nin1 (in), 25 Pin2 (in), 26 Nin2 (in), 27 Pin3 (in), 28 Nin3 (in), 29 EN (in), 30 OTP (out), 31 MODE (in), 33 Pin4 (in), 34 Nin4 (in), 35 Pin5 (in), 36 Nin5 (in), 37 Pin6 (in), 38 Nin6 (in), 39 Pin7 (in), 40 Nin7 (in), 59 Vout7 (out), 60 Vout7 (out), 62 Vout6 (out), 63 Vout6 (out), 65 Vout5 (out), 66 Vout5 (out), 68 Vout4 (out), 69 Vout4 (out), 72 Vout3 (out), 73 Vout3 (out), 75 Vout2 (out), 76 Vout2 (out), 78 Vout1 (out), 79 Vout1 (out)
part B pins: 3 HVGND (power), 4 VPP (power), 5 VPP (power), 6 VPP (power), 7 VPP (power), 8 VPF (power), 9 HVGND (power), 10 VNF (power), 11 VNN (power), 12 VNN (power), 13 VNN (power), 14 VNN (power), 15 VSUB (power), 16 VDN (power), 17 AGND (power), 18 VDD (power), 19 AGND (power), 20 VLL (power), 32 AGND (power), 41 VLL (power), 42 AGND (power), 43 VDD (power), 44 AGND (power), 45 VDN (power), 46 VSUB (power), 47 VNN (power), 48 VNN (power), 49 VNN (power), 50 VNN (power), 51 VNF (power), 52 HVGND (power), 53 VPF (power), 54 VPP (power), 55 VPP (power), 56 VPP (power), 57 VPP (power), 58 HVGND (power), 61 HVGND (power), 64 HVGND (power), 67 HVGND (power), 70 HVGND (power), 71 HVGND (power), 74 HVGND (power), 77 HVGND (power), 80 HVGND (power), 81 EP (power)

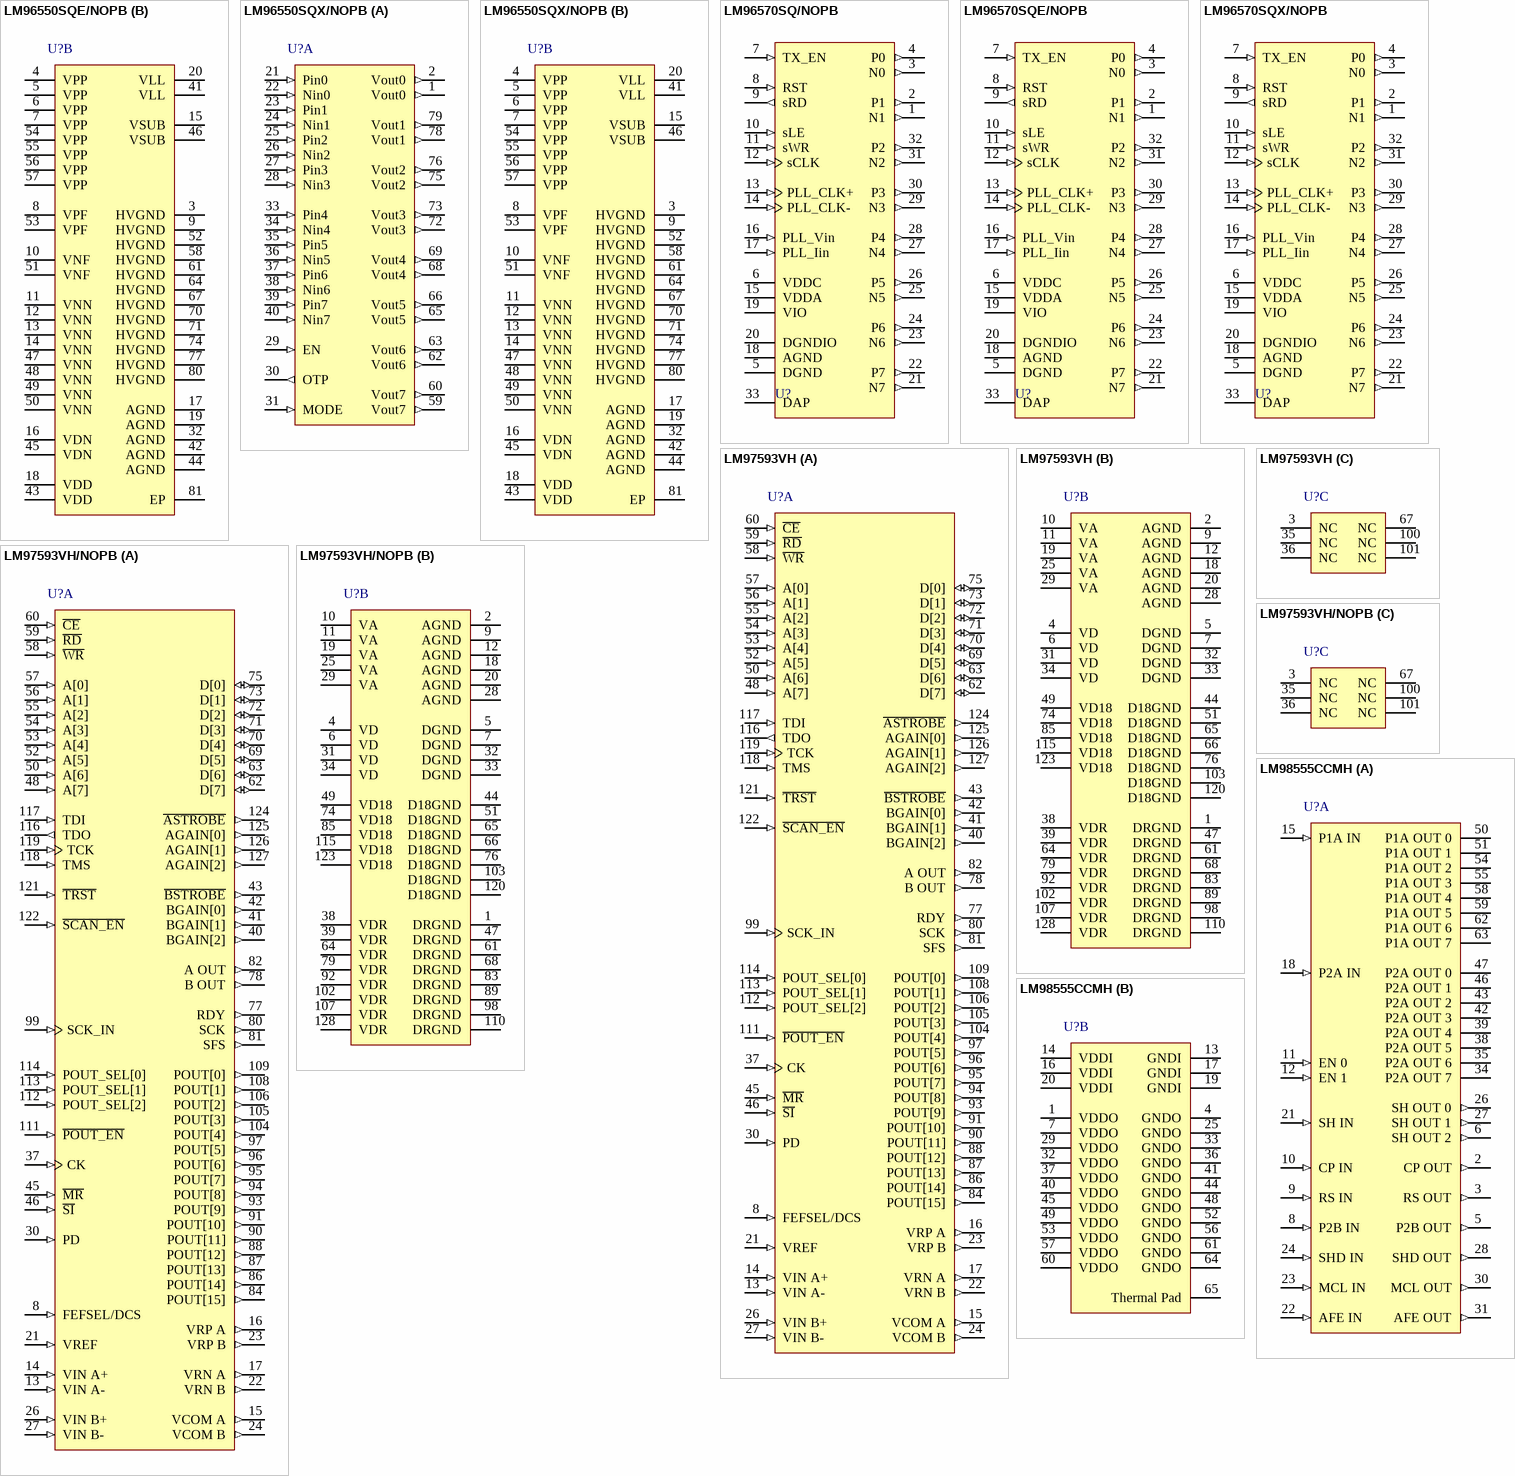
[diagram p9: symbols LM96550SQE/NOPB to LM98555CCMH]

## LM96550SQE/NOPB
designator U?
Ultrasound Transmit Pulser, 80-pin LLP, 250 Reel; PartNumber: LM96550SQE/NOPB; Manufacturer: National Semiconductor; PackageTopMarking: NS*UZXYTTE#*LM96550SQ; PowerWise: N; CompType: OtherParts; High-Reliability: Y; DatasheetVersion: Oct-2011; PackageVersion: revA, Apr-2009; PackageReference: SQA80A; PackageDescription: LLP, Quad, 12 x 12 x 0.8mm, 80 Lead, 0.5mm Pitch, No Pullback; RoHS: Y; PinCount: 80; Code_JEDEC: MO-220-WRRD; ComponentLink1Description: Manufacturer URL; ComponentLink1URL: http://www.national.com/; ComponentLink2Description: LM96550 Datasheet; ComponentLink2URL: http://www.national.com/ds/LM/LM96550.pdf; ComponentLink3Description: LM96550 Web Page; ComponentLink3URL: http://www.national.com/pf/LM/LM96550.html; ComponentLink4Description: SQA80A Package Page; ComponentLink4URL: http://www.national.com/packaging/folders/sqa80a.html
footprint SQA80A (QFN, 80-Leads, Body 12x12mm, Pitch 0.5mm, Thermal Pad 10.65x10.65mm, NSC Recommended)
part A pins: 1 Vout0 (out), 2 Vout0 (out), 21 Pin0 (in), 22 Nin0 (in), 23 Pin1 (in), 24 Nin1 (in), 25 Pin2 (in), 26 Nin2 (in), 27 Pin3 (in), 28 Nin3 (in), 29 EN (in), 30 OTP (out), 31 MODE (in), 33 Pin4 (in), 34 Nin4 (in), 35 Pin5 (in), 36 Nin5 (in), 37 Pin6 (in), 38 Nin6 (in), 39 Pin7 (in), 40 Nin7 (in), 59 Vout7 (out), 60 Vout7 (out), 62 Vout6 (out), 63 Vout6 (out), 65 Vout5 (out), 66 Vout5 (out), 68 Vout4 (out), 69 Vout4 (out), 72 Vout3 (out), 73 Vout3 (out), 75 Vout2 (out), 76 Vout2 (out), 78 Vout1 (out), 79 Vout1 (out)
part B pins: 3 HVGND (power), 4 VPP (power), 5 VPP (power), 6 VPP (power), 7 VPP (power), 8 VPF (power), 9 HVGND (power), 10 VNF (power), 11 VNN (power), 12 VNN (power), 13 VNN (power), 14 VNN (power), 15 VSUB (power), 16 VDN (power), 17 AGND (power), 18 VDD (power), 19 AGND (power), 20 VLL (power), 32 AGND (power), 41 VLL (power), 42 AGND (power), 43 VDD (power), 44 AGND (power), 45 VDN (power), 46 VSUB (power), 47 VNN (power), 48 VNN (power), 49 VNN (power), 50 VNN (power), 51 VNF (power), 52 HVGND (power), 53 VPF (power), 54 VPP (power), 55 VPP (power), 56 VPP (power), 57 VPP (power), 58 HVGND (power), 61 HVGND (power), 64 HVGND (power), 67 HVGND (power), 70 HVGND (power), 71 HVGND (power), 74 HVGND (power), 77 HVGND (power), 80 HVGND (power), 81 EP (power)

## LM96550SQX/NOPB
designator U?
Ultrasound Transmit Pulser, 80-pin LLP; PartNumber: LM96550SQX/NOPB; Manufacturer: National Semiconductor; PackageTopMarking: NS*UZXYTTE#*LM96550SQ; PowerWise: N; CompType: OtherParts; High-Reliability: Y; DatasheetVersion: Oct-2011; PackageVersion: revA, Apr-2009; PackageReference: SQA80A; PackageDescription: LLP, Quad, 12 x 12 x 0.8mm, 80 Lead, 0.5mm Pitch, No Pullback; RoHS: Y; PinCount: 80; Code_JEDEC: MO-220-WRRD; ComponentLink1Description: Manufacturer URL; ComponentLink1URL: http://www.national.com/; ComponentLink2Description: LM96550 Datasheet; ComponentLink2URL: http://www.national.com/ds/LM/LM96550.pdf; ComponentLink3Description: LM96550 Web Page; ComponentLink3URL: http://www.national.com/pf/LM/LM96550.html; ComponentLink4Description: SQA80A Package Page; ComponentLink4URL: http://www.national.com/packaging/folders/sqa80a.html
footprint SQA80A (QFN, 80-Leads, Body 12x12mm, Pitch 0.5mm, Thermal Pad 10.65x10.65mm, NSC Recommended)
part A pins: 1 Vout0 (out), 2 Vout0 (out), 21 Pin0 (in), 22 Nin0 (in), 23 Pin1 (in), 24 Nin1 (in), 25 Pin2 (in), 26 Nin2 (in), 27 Pin3 (in), 28 Nin3 (in), 29 EN (in), 30 OTP (out), 31 MODE (in), 33 Pin4 (in), 34 Nin4 (in), 35 Pin5 (in), 36 Nin5 (in), 37 Pin6 (in), 38 Nin6 (in), 39 Pin7 (in), 40 Nin7 (in), 59 Vout7 (out), 60 Vout7 (out), 62 Vout6 (out), 63 Vout6 (out), 65 Vout5 (out), 66 Vout5 (out), 68 Vout4 (out), 69 Vout4 (out), 72 Vout3 (out), 73 Vout3 (out), 75 Vout2 (out), 76 Vout2 (out), 78 Vout1 (out), 79 Vout1 (out)
part B pins: 3 HVGND (power), 4 VPP (power), 5 VPP (power), 6 VPP (power), 7 VPP (power), 8 VPF (power), 9 HVGND (power), 10 VNF (power), 11 VNN (power), 12 VNN (power), 13 VNN (power), 14 VNN (power), 15 VSUB (power), 16 VDN (power), 17 AGND (power), 18 VDD (power), 19 AGND (power), 20 VLL (power), 32 AGND (power), 41 VLL (power), 42 AGND (power), 43 VDD (power), 44 AGND (power), 45 VDN (power), 46 VSUB (power), 47 VNN (power), 48 VNN (power), 49 VNN (power), 50 VNN (power), 51 VNF (power), 52 HVGND (power), 53 VPF (power), 54 VPP (power), 55 VPP (power), 56 VPP (power), 57 VPP (power), 58 HVGND (power), 61 HVGND (power), 64 HVGND (power), 67 HVGND (power), 70 HVGND (power), 71 HVGND (power), 74 HVGND (power), 77 HVGND (power), 80 HVGND (power), 81 EP (power)

## LM96570SQ/NOPB
designator U?
Ultrasound Configurable Transmit Beamformer, 32-pin LLP, 1000 Reel; PartNumber: LM96570SQ/NOPB; Manufacturer: National Semiconductor; PackageTopMarking: NS*UZXYTT*L96570; PowerWise: N; CompType: OtherParts; High-Reliability: Y; DatasheetVersion: Nov-2010; PackageVersion: revB, Oct-2009; PackageReference: SQA32A; PackageDescription: LLP, Quad, 5 x 5 x 0.8mm, 32 Lead, 0.5mm Pitch, No Pullback 3.1 x 3.1 Exposed Pad; RoHS: Y; PinCount: 32; ComponentLink1Description: Manufacturer URL; ComponentLink1URL: http://www.national.com/; ComponentLink2Description: LM96570 Datasheet; ComponentLink2URL: http://www.national.com/ds/LM/LM96570.pdf; ComponentLink3Description: LM96570 Web Page; ComponentLink3URL: http://www.national.com/pf/LM/LM96570.html; ComponentLink4Description: SQA32A Package Page; ComponentLink4URL: http://www.national.com/packaging/folders/sqa32a.html
footprint SQA32A (QFN, 32-Leads, Body 5x5mm, Pitch 0.5mm, Thermal Pad 3.2x3.2mm, NSC Recommended)
pins: 1 N1 (out) "Control signal for pulser, negative pulse control", 2 P1 (out) "Control signal for pulser, positive pulse control", 3 N0 (out) "Control signal for pulser, negative pulse control", 4 P0 (out) "Control signal for pulser, positive pulse control", 5 DGND (power) "Digital core ground", 6 VDDC (power) "Digital core supply voltage (1.8V)", 7 TX_EN (in) "1 = Beamformer starts firing 0 = Beamformer ceases firing", 8 RST (in) "Asynchronous Chip Reset 1 = Reset 0 = No Reset", 9 sRD (out) "4-Wire Serial Interface Data Output for reading data registers", 10 sLE (in) "4-Wire Serial Interface Latch Enable", 11 sWR (in) "4-Wire Serial Interface Data Input for writing data registers", 12 sCLK (in) "4-Wire Serial Interface Clock", 13 PLL_CLK+ (in) "PLL Reference Clock PLUS Input, LVDS compatible or Single-Ended LV CMOS input, programmable through 4-Wire Serial Interface (Register 1Bh[0])", 14 PLL_CLK- (in) "PLL Reference Clock MINUS input, LVDS compatible. For Single-Ended PLL Reference Clock operation, tie this pin to AGND or VDDA.", 15 VDDA (power) "Analog supply voltage (1.8V)", 16 PLL_Vin (in) "Voltage range 0.8-1.2V for tuning internal PLL noise performance. Under normal conditions, 0.94V is recommended.", 17 PLL_Iin (in) "100 uA current input", 18 AGND (power) "PLL Analog ground", 19 VIO (power) "Digital I/O supply voltage (2.5 to 3.3V)", 20 DGNDIO (power) "Digital I/O ground", 21 N7 (out) "Control signal for pulser, negative pulse control", 22 P7 (out) "Control signal for pulser, positive pulse control", 23 N6 (out) "Control signal for pulser, negative pulse control", 24 P6 (out) "Control signal for pulser, positive pulse control", 25 N5 (out) "Control signal for pulser, negative pulse control", 26 P5 (out) "Control signal for pulser, positive pulse control", 27 N4 (out) "Control signal for pulser, negative pulse control", 28 P4 (out) "Control signal for pulser, positive pulse control", 29 N3 (out) "Control signal for pulser, negative pulse control", 30 P3 (out) "Control signal for pulser, positive pulse control", 31 N2 (out) "Control signal for pulser, negative pulse control", 32 P2 (out) "Control signal for pulser, positive pulse control", 33 DAP (power) "PLL Analog ground"

## LM96570SQE/NOPB
designator U?
Ultrasound Configurable Transmit Beamformer, 32-pin LLP, 250 Reel; PartNumber: LM96570SQE/NOPB; Manufacturer: National Semiconductor; PackageTopMarking: NS*UZXYTT*L96570; PowerWise: N; CompType: OtherParts; High-Reliability: Y; DatasheetVersion: Nov-2010; PackageVersion: revB, Oct-2009; PackageReference: SQA32A; PackageDescription: LLP, Quad, 5 x 5 x 0.8mm, 32 Lead, 0.5mm Pitch, No Pullback 3.1 x 3.1 Exposed Pad; RoHS: Y; PinCount: 32; ComponentLink1Description: Manufacturer URL; ComponentLink1URL: http://www.national.com/; ComponentLink2Description: LM96570 Datasheet; ComponentLink2URL: http://www.national.com/ds/LM/LM96570.pdf; ComponentLink3Description: LM96570 Web Page; ComponentLink3URL: http://www.national.com/pf/LM/LM96570.html; ComponentLink4Description: SQA32A Package Page; ComponentLink4URL: http://www.national.com/packaging/folders/sqa32a.html
footprint SQA32A (QFN, 32-Leads, Body 5x5mm, Pitch 0.5mm, Thermal Pad 3.2x3.2mm, NSC Recommended)
pins: 1 N1 (out) "Control signal for pulser, negative pulse control", 2 P1 (out) "Control signal for pulser, positive pulse control", 3 N0 (out) "Control signal for pulser, negative pulse control", 4 P0 (out) "Control signal for pulser, positive pulse control", 5 DGND (power) "Digital core ground", 6 VDDC (power) "Digital core supply voltage (1.8V)", 7 TX_EN (in) "1 = Beamformer starts firing 0 = Beamformer ceases firing", 8 RST (in) "Asynchronous Chip Reset 1 = Reset 0 = No Reset", 9 sRD (out) "4-Wire Serial Interface Data Output for reading data registers", 10 sLE (in) "4-Wire Serial Interface Latch Enable", 11 sWR (in) "4-Wire Serial Interface Data Input for writing data registers", 12 sCLK (in) "4-Wire Serial Interface Clock", 13 PLL_CLK+ (in) "PLL Reference Clock PLUS Input, LVDS compatible or Single-Ended LV CMOS input, programmable through 4-Wire Serial Interface (Register 1Bh[0])", 14 PLL_CLK- (in) "PLL Reference Clock MINUS input, LVDS compatible. For Single-Ended PLL Reference Clock operation, tie this pin to AGND or VDDA.", 15 VDDA (power) "Analog supply voltage (1.8V)", 16 PLL_Vin (in) "Voltage range 0.8-1.2V for tuning internal PLL noise performance. Under normal conditions, 0.94V is recommended.", 17 PLL_Iin (in) "100 uA current input", 18 AGND (power) "PLL Analog ground", 19 VIO (power) "Digital I/O supply voltage (2.5 to 3.3V)", 20 DGNDIO (power) "Digital I/O ground", 21 N7 (out) "Control signal for pulser, negative pulse control", 22 P7 (out) "Control signal for pulser, positive pulse control", 23 N6 (out) "Control signal for pulser, negative pulse control", 24 P6 (out) "Control signal for pulser, positive pulse control", 25 N5 (out) "Control signal for pulser, negative pulse control", 26 P5 (out) "Control signal for pulser, positive pulse control", 27 N4 (out) "Control signal for pulser, negative pulse control", 28 P4 (out) "Control signal for pulser, positive pulse control", 29 N3 (out) "Control signal for pulser, negative pulse control", 30 P3 (out) "Control signal for pulser, positive pulse control", 31 N2 (out) "Control signal for pulser, negative pulse control", 32 P2 (out) "Control signal for pulser, positive pulse control", 33 DAP (power) "PLL Analog ground"

## LM96570SQX/NOPB
designator U?
Ultrasound Configurable Transmit Beamformer, 32-pin LLP, 4500 Reel; PartNumber: LM96570SQX/NOPB; Manufacturer: National Semiconductor; PackageTopMarking: NS*UZXYTT*L96570; PowerWise: N; CompType: OtherParts; High-Reliability: Y; DatasheetVersion: Nov-2010; PackageVersion: revB, Oct-2009; PackageReference: SQA32A; PackageDescription: LLP, Quad, 5 x 5 x 0.8mm, 32 Lead, 0.5mm Pitch, No Pullback 3.1 x 3.1 Exposed Pad; RoHS: Y; PinCount: 32; ComponentLink1Description: Manufacturer URL; ComponentLink1URL: http://www.national.com/; ComponentLink2Description: LM96570 Datasheet; ComponentLink2URL: http://www.national.com/ds/LM/LM96570.pdf; ComponentLink3Description: LM96570 Web Page; ComponentLink3URL: http://www.national.com/pf/LM/LM96570.html; ComponentLink4Description: SQA32A Package Page; ComponentLink4URL: http://www.national.com/packaging/folders/sqa32a.html
footprint SQA32A (QFN, 32-Leads, Body 5x5mm, Pitch 0.5mm, Thermal Pad 3.2x3.2mm, NSC Recommended)
pins: 1 N1 (out) "Control signal for pulser, negative pulse control", 2 P1 (out) "Control signal for pulser, positive pulse control", 3 N0 (out) "Control signal for pulser, negative pulse control", 4 P0 (out) "Control signal for pulser, positive pulse control", 5 DGND (power) "Digital core ground", 6 VDDC (power) "Digital core supply voltage (1.8V)", 7 TX_EN (in) "1 = Beamformer starts firing 0 = Beamformer ceases firing", 8 RST (in) "Asynchronous Chip Reset 1 = Reset 0 = No Reset", 9 sRD (out) "4-Wire Serial Interface Data Output for reading data registers", 10 sLE (in) "4-Wire Serial Interface Latch Enable", 11 sWR (in) "4-Wire Serial Interface Data Input for writing data registers", 12 sCLK (in) "4-Wire Serial Interface Clock", 13 PLL_CLK+ (in) "PLL Reference Clock PLUS Input, LVDS compatible or Single-Ended LV CMOS input, programmable through 4-Wire Serial Interface (Register 1Bh[0])", 14 PLL_CLK- (in) "PLL Reference Clock MINUS input, LVDS compatible. For Single-Ended PLL Reference Clock operation, tie this pin to AGND or VDDA.", 15 VDDA (power) "Analog supply voltage (1.8V)", 16 PLL_Vin (in) "Voltage range 0.8-1.2V for tuning internal PLL noise performance. Under normal conditions, 0.94V is recommended.", 17 PLL_Iin (in) "100 uA current input", 18 AGND (power) "PLL Analog ground", 19 VIO (power) "Digital I/O supply voltage (2.5 to 3.3V)", 20 DGNDIO (power) "Digital I/O ground", 21 N7 (out) "Control signal for pulser, negative pulse control", 22 P7 (out) "Control signal for pulser, positive pulse control", 23 N6 (out) "Control signal for pulser, negative pulse control", 24 P6 (out) "Control signal for pulser, positive pulse control", 25 N5 (out) "Control signal for pulser, negative pulse control", 26 P5 (out) "Control signal for pulser, positive pulse control", 27 N4 (out) "Control signal for pulser, negative pulse control", 28 P4 (out) "Control signal for pulser, positive pulse control", 29 N3 (out) "Control signal for pulser, negative pulse control", 30 P3 (out) "Control signal for pulser, positive pulse control", 31 N2 (out) "Control signal for pulser, negative pulse control", 32 P2 (out) "Control signal for pulser, positive pulse control", 33 DAP (power) "PLL Analog ground"

## LM97593VH
designator U?
Dual ADC / Digital Tuner / AGC, 128-pin PQFP; PartNumber: LM97593VH; Manufacturer: National Semiconductor; PackageTopMarking: THHD*XTT; PowerWise: N; CompType: OtherParts; High-Reliability: Y; DatasheetVersion: Mar-2008; PackageVersion: revC, Jun-1998; PackageReference: VLA128A; PackageDescription: PQFP, (S), 14 x 20 x 2.7mm, 128 Lead; RoHS: Y; PinCount: 128; ComponentLink1Description: Manufacturer URL; ComponentLink1URL: http://www.national.com/; ComponentLink2Description: LM97593 Datasheet; ComponentLink2URL: http://www.national.com/ds/LM/LM97593.pdf; ComponentLink3Description: LM97593 Web Page; ComponentLink3URL: http://www.national.com/pf/LM/LM97593.html; ComponentLink4Description: VLA128A Package Page; ComponentLink4URL: http://www.national.com/packaging/folders/vla128a.html
footprint VLA128A_N (Shrink QFP, 128-Leads, Body 20x14 mm, Pitch 0.5mm, IPC Medium Density)
footprint VLA128A_L (Shrink QFP, 128-Leads, Body 20x14 mm, Pitch 0.5mm, IPC High Density)
footprint VLA128A_M (Shrink QFP, 128-Leads, Body 20x14 mm, Pitch 0.5mm, IPC Low Density)
part A pins: 8 FEFSEL/DCS (in), 13 VIN A- (in), 14 VIN A+ (in), 15 VCOM A (out), 16 VRP A (out), 17 VRN A (out), 21 VREF (in), 22 VRN B (out), 23 VRP B (out), 24 VCOM B (out), 26 VIN B+ (in), 27 VIN B- (in), 30 PD (in), 37 CK (in), 40 BGAIN[2] (out), 41 BGAIN[1] (out), 42 BGAIN[0] (out), 43 ~{BSTROBE} (out), 45 ~{MR} (in), 46 ~{SI} (in), 48 A[7] (in), 50 A[6] (in), 52 A[5] (in), 53 A[4] (in), 54 A[3] (in), 55 A[2] (in), 56 A[1] (in), 57 A[0] (in), 58 ~{WR} (in), 59 ~{RD} (in), 60 ~{CE} (in), 62 D[7] (io), 63 D[6] (io), 69 D[5] (io), 70 D[4] (io), 71 D[3] (io), 72 D[2] (io), 73 D[1] (io), 75 D[0] (io), 77 RDY (out), 78 B OUT (out), 80 SCK (out), 81 SFS (out), 82 A OUT (out), 84 POUT[15] (out), 86 POUT[14] (out), 87 POUT[13] (out), 88 POUT[12] (out), 90 POUT[11] (out), 91 POUT[10] (out), 93 POUT[9] (out), 94 POUT[8] (out), 95 POUT[7] (out), 96 POUT[6] (out), 97 POUT[5] (out), 99 SCK_IN (in), 104 POUT[4] (out), 105 POUT[3] (out), 106 POUT[2] (out), 108 POUT[1] (out), 109 POUT[0] (out), 111 ~{POUT_EN} (in), 112 POUT_SEL[2] (in), 113 POUT_SEL[1] (in), 114 POUT_SEL[0] (in), 116 TDO (out), 117 TDI (in), 118 TMS (in), 119 TCK (in), 121 ~{TRST} (in), 122 ~{SCAN_EN} (in), 124 ~{ASTROBE} (out), 125 AGAIN[0] (out), 126 AGAIN[1] (out), 127 AGAIN[2] (out)
part B pins: 1 DRGND (power), 2 AGND (power), 4 VD (power), 5 DGND (power), 6 VD (power), 7 DGND (power), 9 AGND (power), 10 VA (power), 11 VA (power), 12 AGND (power), 18 AGND (power), 19 VA (power), 20 AGND (power), 25 VA (power), 28 AGND (power), 29 VA (power), 31 VD (power), 32 DGND (power), 33 DGND (power), 34 VD (power), 38 VDR (power), 39 VDR (power), 44 D18GND (power), 47 DRGND (power), 49 VD18 (power), 51 D18GND (power), 61 DRGND (power), 64 VDR (power), 65 D18GND (power), 66 D18GND (power), 68 DRGND (power), 74 VD18 (power), 76 D18GND (power), 79 VDR (power), 83 DRGND (power), 85 VD18 (power), 89 DRGND (power), 92 VDR (power), 98 DRGND (power), 102 VDR (power), 103 D18GND (power), 107 VDR (power), 110 DRGND (power), 115 VD18 (power), 120 D18GND (power), 123 VD18 (power), 128 VDR (power)
part C pins: 3 NC, 35 NC, 36 NC, 67 NC, 100 NC, 101 NC

## LM97593VH/NOPB
designator U?
Dual ADC / Digital Tuner / AGC, 128-pin PQFP, Pb-Free; PartNumber: LM97593VH/NOPB; Manufacturer: National Semiconductor; PackageTopMarking: NSUZXYYTTE#*LM97593VH; PowerWise: N; CompType: OtherParts; High-Reliability: Y; DatasheetVersion: Mar-2008; PackageVersion: revC, Jun-1998; PackageReference: VLA128A; PackageDescription: PQFP, (S), 14 x 20 x 2.7mm, 128 Lead; RoHS: Y; PinCount: 128; ComponentLink1Description: Manufacturer URL; ComponentLink1URL: http://www.national.com/; ComponentLink2Description: LM97593 Datasheet; ComponentLink2URL: http://www.national.com/ds/LM/LM97593.pdf; ComponentLink3Description: LM97593 Web Page; ComponentLink3URL: http://www.national.com/pf/LM/LM97593.html; ComponentLink4Description: VLA128A Package Page; ComponentLink4URL: http://www.national.com/packaging/folders/vla128a.html
footprint VLA128A_N (Shrink QFP, 128-Leads, Body 20x14 mm, Pitch 0.5mm, IPC Medium Density)
footprint VLA128A_L (Shrink QFP, 128-Leads, Body 20x14 mm, Pitch 0.5mm, IPC High Density)
footprint VLA128A_M (Shrink QFP, 128-Leads, Body 20x14 mm, Pitch 0.5mm, IPC Low Density)
part A pins: 8 FEFSEL/DCS (in), 13 VIN A- (in), 14 VIN A+ (in), 15 VCOM A (out), 16 VRP A (out), 17 VRN A (out), 21 VREF (in), 22 VRN B (out), 23 VRP B (out), 24 VCOM B (out), 26 VIN B+ (in), 27 VIN B- (in), 30 PD (in), 37 CK (in), 40 BGAIN[2] (out), 41 BGAIN[1] (out), 42 BGAIN[0] (out), 43 ~{BSTROBE} (out), 45 ~{MR} (in), 46 ~{SI} (in), 48 A[7] (in), 50 A[6] (in), 52 A[5] (in), 53 A[4] (in), 54 A[3] (in), 55 A[2] (in), 56 A[1] (in), 57 A[0] (in), 58 ~{WR} (in), 59 ~{RD} (in), 60 ~{CE} (in), 62 D[7] (io), 63 D[6] (io), 69 D[5] (io), 70 D[4] (io), 71 D[3] (io), 72 D[2] (io), 73 D[1] (io), 75 D[0] (io), 77 RDY (out), 78 B OUT (out), 80 SCK (out), 81 SFS (out), 82 A OUT (out), 84 POUT[15] (out), 86 POUT[14] (out), 87 POUT[13] (out), 88 POUT[12] (out), 90 POUT[11] (out), 91 POUT[10] (out), 93 POUT[9] (out), 94 POUT[8] (out), 95 POUT[7] (out), 96 POUT[6] (out), 97 POUT[5] (out), 99 SCK_IN (in), 104 POUT[4] (out), 105 POUT[3] (out), 106 POUT[2] (out), 108 POUT[1] (out), 109 POUT[0] (out), 111 ~{POUT_EN} (in), 112 POUT_SEL[2] (in), 113 POUT_SEL[1] (in), 114 POUT_SEL[0] (in), 116 TDO (out), 117 TDI (in), 118 TMS (in), 119 TCK (in), 121 ~{TRST} (in), 122 ~{SCAN_EN} (in), 124 ~{ASTROBE} (out), 125 AGAIN[0] (out), 126 AGAIN[1] (out), 127 AGAIN[2] (out)
part B pins: 1 DRGND (power), 2 AGND (power), 4 VD (power), 5 DGND (power), 6 VD (power), 7 DGND (power), 9 AGND (power), 10 VA (power), 11 VA (power), 12 AGND (power), 18 AGND (power), 19 VA (power), 20 AGND (power), 25 VA (power), 28 AGND (power), 29 VA (power), 31 VD (power), 32 DGND (power), 33 DGND (power), 34 VD (power), 38 VDR (power), 39 VDR (power), 44 D18GND (power), 47 DRGND (power), 49 VD18 (power), 51 D18GND (power), 61 DRGND (power), 64 VDR (power), 65 D18GND (power), 66 D18GND (power), 68 DRGND (power), 74 VD18 (power), 76 D18GND (power), 79 VDR (power), 83 DRGND (power), 85 VD18 (power), 89 DRGND (power), 92 VDR (power), 98 DRGND (power), 102 VDR (power), 103 D18GND (power), 107 VDR (power), 110 DRGND (power), 115 VD18 (power), 120 D18GND (power), 123 VD18 (power), 128 VDR (power)
part C pins: 3 NC, 35 NC, 36 NC, 67 NC, 100 NC, 101 NC